# Altium schematic symbol library WE-TPB HV.SchLib: 18 symbols
Pins are listed as number, name and electrical type; pins without a type are passive.

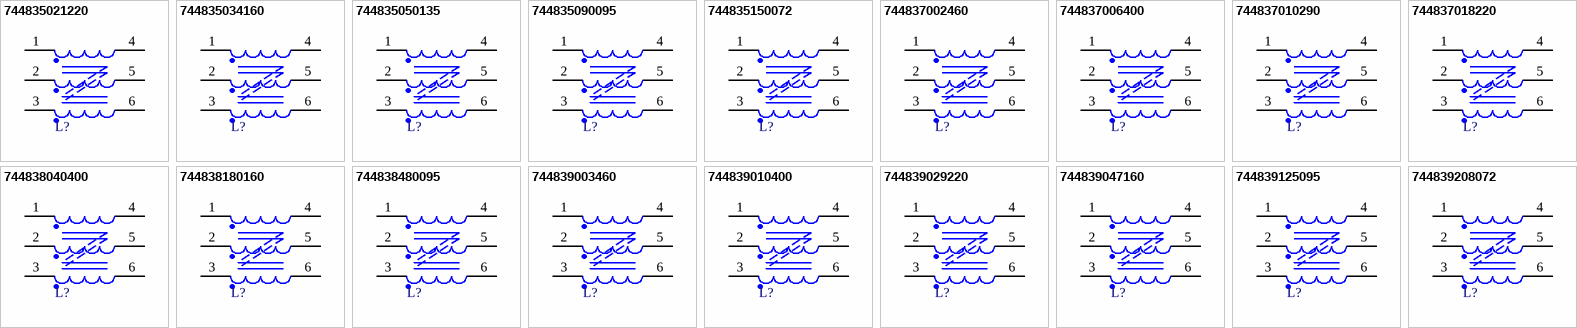
[diagram p0: symbols 744835021220 to 744839208072]

## 744835021220
designator L?, comment 2.1mH  (value not drawn)
WE-TPB HV THT Three-Phase Common Mode Power Line Choke, Type 4XL, 2.1mH, 22A, 9mΩ; Manufacturer Part Number: 744835021220; Manufacturer: Wurth Elektronik; Insulation Test Voltage (AC): 3000V; Material: MnZn; Rated Voltage (AC): 760V; ComponentLink1Description: Manufacturer Link; ComponentLink1URL: https://www.we-online.com/redexpert/article/744835021220?ad; ComponentLink2Description: Datasheet; ComponentLink2URL: https://www.we-online.com/redexpert/spec/744835021220?ad; Category: Common Mode Chokes; Match Code: WE-TPB HV; Mount: Through Hole; Operating Temperature Max: 125°C; Operating Temperature Min: -40°C; Packaging: Tray; Case/Size Code: Type 4XL; Height: 39mm; Diameter: 70mm; DC Resistance Max: 9mΩ; Inductance: 2.1mH; Rated Current: 22A
footprint WE-TPB HV_Type 4XL_744835021220
pins: 1, 2, 3, 4, 5, 6

## 744835034160
designator L?, comment 3.4mH  (value not drawn)
WE-TPB HV THT Three-Phase Common Mode Power Line Choke, Type 4XL, 3.4mH, 16A, 14mΩ; Manufacturer Part Number: 744835034160; Manufacturer: Wurth Elektronik; Insulation Test Voltage (AC): 3000V; Material: MnZn; Rated Voltage (AC): 760V; ComponentLink1Description: Manufacturer Link; ComponentLink1URL: https://www.we-online.com/redexpert/article/744835034160?ad; ComponentLink2Description: Datasheet; ComponentLink2URL: https://www.we-online.com/redexpert/spec/744835034160?ad; Category: Common Mode Chokes; Match Code: WE-TPB HV; Mount: Through Hole; Operating Temperature Max: 125°C; Operating Temperature Min: -40°C; Packaging: Tray; Case/Size Code: Type 4XL; Height: 39mm; Diameter: 70mm; DC Resistance Max: 14mΩ; Inductance: 3.4mH; Rated Current: 16A
footprint WE-TPB HV_Type 4XL_744835034160
pins: 1, 2, 3, 4, 5, 6

## 744835050135
designator L?, comment 5mH  (value not drawn)
WE-TPB HV THT Three-Phase Common Mode Power Line Choke, Type 4XL, 5mH, 13.5A, 23mΩ; Manufacturer Part Number: 744835050135; Manufacturer: Wurth Elektronik; Insulation Test Voltage (AC): 3000V; Material: MnZn; Rated Voltage (AC): 760V; ComponentLink1Description: Manufacturer Link; ComponentLink1URL: https://www.we-online.com/redexpert/article/744835050135?ad; ComponentLink2Description: Datasheet; ComponentLink2URL: https://www.we-online.com/redexpert/spec/744835050135?ad; Category: Common Mode Chokes; Match Code: WE-TPB HV; Mount: Through Hole; Operating Temperature Max: 125°C; Operating Temperature Min: -40°C; Packaging: Tray; Case/Size Code: Type 4XL; Height: 39mm; Diameter: 70mm; DC Resistance Max: 23mΩ; Inductance: 5mH; Rated Current: 13.5A
footprint WE-TPB HV_Type 4XL_744835050135
pins: 1, 2, 3, 4, 5, 6

## 744835090095
designator L?, comment 9mH  (value not drawn)
WE-TPB HV THT Three-Phase Common Mode Power Line Choke, Type 4XL, 9mH, 9.5A, 47mΩ; Manufacturer Part Number: 744835090095; Manufacturer: Wurth Elektronik; Insulation Test Voltage (AC): 3000V; Material: MnZn; Rated Voltage (AC): 760V; ComponentLink1Description: Manufacturer Link; ComponentLink1URL: https://www.we-online.com/redexpert/article/744835090095?ad; ComponentLink2Description: Datasheet; ComponentLink2URL: https://www.we-online.com/redexpert/spec/744835090095?ad; Category: Common Mode Chokes; Match Code: WE-TPB HV; Mount: Through Hole; Operating Temperature Max: 125°C; Operating Temperature Min: -40°C; Packaging: Tray; Case/Size Code: Type 4XL; Height: 39mm; Diameter: 70mm; DC Resistance Max: 47mΩ; Inductance: 9mH; Rated Current: 9.5A
footprint WE-TPB HV_Type 4XL_744835090095
pins: 1, 2, 3, 4, 5, 6

## 744835150072
designator L?, comment 15mH  (value not drawn)
WE-TPB HV THT Three-Phase Common Mode Power Line Choke, Type 4XL, 15mH, 7.2A, 85mΩ; Manufacturer Part Number: 744835150072; Manufacturer: Wurth Elektronik; Insulation Test Voltage (AC): 3000V; Material: MnZn; Rated Voltage (AC): 760V; ComponentLink1Description: Manufacturer Link; ComponentLink1URL: https://www.we-online.com/redexpert/article/744835150072?ad; ComponentLink2Description: Datasheet; ComponentLink2URL: https://www.we-online.com/redexpert/spec/744835150072?ad; Category: Common Mode Chokes; Match Code: WE-TPB HV; Mount: Through Hole; Operating Temperature Max: 125°C; Operating Temperature Min: -40°C; Packaging: Tray; Case/Size Code: Type 4XL; Height: 39mm; Diameter: 70mm; DC Resistance Max: 85mΩ; Inductance: 15mH; Rated Current: 7.2A
footprint WE-TPB HV_Type 4XL_744835150072
pins: 1, 2, 3, 4, 5, 6

## 744837002460
designator L?, comment 0.2mH  (value not drawn)
WE-TPB HV THT Three-Phase Common Mode Power Line Choke, Type 4XL, 0.2mH, 46A, 1.6mΩ; Manufacturer Part Number: 744837002460; Manufacturer: Wurth Elektronik; Insulation Test Voltage (AC): 3000V; Material: MnZn; Rated Voltage (AC): 760V; ComponentLink1Description: Manufacturer Link; ComponentLink1URL: https://www.we-online.com/redexpert/article/744837002460?ad; ComponentLink2Description: Datasheet; ComponentLink2URL: https://www.we-online.com/redexpert/spec/744837002460?ad; Category: Common Mode Chokes; Match Code: WE-TPB HV; Mount: Through Hole; Operating Temperature Max: 125°C; Operating Temperature Min: -40°C; Packaging: Tray; Case/Size Code: Type 4XL; Height: 39mm; Diameter: 70mm; DC Resistance Max: 1.6mΩ; Inductance: 0.2mH; Rated Current: 46A
footprint WE-TPB HV_Type 4XL_744837002460
pins: 1, 2, 3, 4, 5, 6

## 744837006400
designator L?, comment 0.6mH  (value not drawn)
WE-TPB HV THT Three-Phase Common Mode Power Line Choke, Type 4XL, 0.6mH, 40A, 3.2mΩ; Manufacturer Part Number: 744837006400; Manufacturer: Wurth Elektronik; Insulation Test Voltage (AC): 3000V; Material: MnZn; Rated Voltage (AC): 760V; ComponentLink1Description: Manufacturer Link; ComponentLink1URL: https://www.we-online.com/redexpert/article/744837006400?ad; ComponentLink2Description: Datasheet; ComponentLink2URL: https://www.we-online.com/redexpert/spec/744837006400?ad; Category: Common Mode Chokes; Match Code: WE-TPB HV; Mount: Through Hole; Operating Temperature Max: 125°C; Operating Temperature Min: -40°C; Packaging: Tray; Case/Size Code: Type 4XL; Height: 39mm; Diameter: 70mm; DC Resistance Max: 3.2mΩ; Inductance: 0.6mH; Rated Current: 40A
footprint WE-TPB HV_Type 4XL_744837006400
pins: 1, 2, 3, 4, 5, 6

## 744837010290
designator L?, comment 1mH  (value not drawn)
WE-TPB HV THT Three-Phase Common Mode Power Line Choke, Type 4XL, 1mH, 29A, 5mΩ; Manufacturer Part Number: 744837010290; Manufacturer: Wurth Elektronik; Insulation Test Voltage (AC): 3000V; Material: MnZn; Rated Voltage (AC): 760V; ComponentLink1Description: Manufacturer Link; ComponentLink1URL: https://www.we-online.com/redexpert/article/744837010290?ad; ComponentLink2Description: Datasheet; ComponentLink2URL: https://www.we-online.com/redexpert/spec/744837010290?ad; Category: Common Mode Chokes; Match Code: WE-TPB HV; Mount: Through Hole; Operating Temperature Max: 125°C; Operating Temperature Min: -40°C; Packaging: Tray; Case/Size Code: Type 4XL; Height: 39mm; Diameter: 70mm; DC Resistance Max: 5mΩ; Inductance: 1mH; Rated Current: 29A
footprint WE-TPB HV_Type 4XL_744837010290
pins: 1, 2, 3, 4, 5, 6

## 744837018220
designator L?, comment 1.8mH  (value not drawn)
WE-TPB HV THT Three-Phase Common Mode Power Line Choke, Type 4XL, 1.8mH, 22A, 9mΩ; Manufacturer Part Number: 744837018220; Manufacturer: Wurth Elektronik; Insulation Test Voltage (AC): 3000V; Material: MnZn; Rated Voltage (AC): 760V; ComponentLink1Description: Manufacturer Link; ComponentLink1URL: https://www.we-online.com/redexpert/article/744837018220?ad; ComponentLink2Description: Datasheet; ComponentLink2URL: https://www.we-online.com/redexpert/spec/744837018220?ad; Category: Common Mode Chokes; Match Code: WE-TPB HV; Mount: Through Hole; Operating Temperature Max: 125°C; Operating Temperature Min: -40°C; Packaging: Tray; Case/Size Code: Type 4XL; Height: 39mm; Diameter: 70mm; DC Resistance Max: 9mΩ; Inductance: 1.8mH; Rated Current: 22A
footprint WE-TPB HV_Type 4XL_744837018220
pins: 1, 2, 3, 4, 5, 6

## 744838040400
designator L?, comment 4mH  (value not drawn)
WE-TPB HV THT Three-Phase Common Mode Power Line Choke, Type 4XL, 4mH, 40A, 3.2mΩ; Manufacturer Part Number: 744838040400; Manufacturer: Wurth Elektronik; Insulation Test Voltage (AC): 3000V; Material: MnZn; Rated Voltage (AC): 760V; ComponentLink1Description: Manufacturer Link; ComponentLink1URL: https://www.we-online.com/redexpert/article/744838040400?ad; ComponentLink2Description: Datasheet; ComponentLink2URL: https://www.we-online.com/redexpert/spec/744838040400?ad; Category: Common Mode Chokes; Match Code: WE-TPB HV; Mount: Through Hole; Operating Temperature Max: 125°C; Operating Temperature Min: -40°C; Packaging: Tray; Case/Size Code: Type 4XL; Height: 39mm; Diameter: 70mm; DC Resistance Max: 3.2mΩ; Inductance: 4mH; Rated Current: 40A
footprint WE-TPB HV_Type 4XL_744838040400
pins: 1, 2, 3, 4, 5, 6

## 744838180160
designator L?, comment 18mH  (value not drawn)
WE-TPB HV THT Three-Phase Common Mode Power Line Choke, Type 4XL, 18mH, 16A, 14mΩ; Manufacturer Part Number: 744838180160; Manufacturer: Wurth Elektronik; Insulation Test Voltage (AC): 3000V; Material: MnZn; Rated Voltage (AC): 760V; ComponentLink1Description: Manufacturer Link; ComponentLink1URL: https://www.we-online.com/redexpert/article/744838180160?ad; ComponentLink2Description: Datasheet; ComponentLink2URL: https://www.we-online.com/redexpert/spec/744838180160?ad; Category: Common Mode Chokes; Match Code: WE-TPB HV; Mount: Through Hole; Operating Temperature Max: 125°C; Operating Temperature Min: -40°C; Packaging: Tray; Case/Size Code: Type 4XL; Height: 39mm; Diameter: 70mm; DC Resistance Max: 14mΩ; Inductance: 18mH; Rated Current: 16A
footprint WE-TPB HV_Type 4XL_744838180160
pins: 1, 2, 3, 4, 5, 6

## 744838480095
designator L?, comment 48mH  (value not drawn)
WE-TPB HV THT Three-Phase Common Mode Power Line Choke, Type 4XL, 48mH, 9.5A, 47mΩ; Manufacturer Part Number: 744838480095; Manufacturer: Wurth Elektronik; Insulation Test Voltage (AC): 3000V; Material: MnZn; Rated Voltage (AC): 760V; ComponentLink1Description: Manufacturer Link; ComponentLink1URL: https://www.we-online.com/redexpert/article/744838480095?ad; ComponentLink2Description: Datasheet; ComponentLink2URL: https://www.we-online.com/redexpert/spec/744838480095?ad; Category: Common Mode Chokes; Match Code: WE-TPB HV; Mount: Through Hole; Operating Temperature Max: 125°C; Operating Temperature Min: -40°C; Packaging: Tray; Case/Size Code: Type 4XL; Height: 39mm; Diameter: 70mm; DC Resistance Max: 47mΩ; Inductance: 48mH; Rated Current: 9.5A
footprint WE-TPB HV_Type 4XL_744838480095
pins: 1, 2, 3, 4, 5, 6

## 744839003460
designator L?, comment 3mH  (value not drawn)
WE-TPB HV THT Three-Phase Common Mode Power Line Choke, Type 4XL, 3mH, 46A, 1.6mΩ; Manufacturer Part Number: 744839003460; Manufacturer: Wurth Elektronik; Insulation Test Voltage (AC): 3000V; Material: MnZn; Rated Voltage (AC): 760V; ComponentLink1Description: Manufacturer Link; ComponentLink1URL: https://www.we-online.com/redexpert/article/744839003460?ad; ComponentLink2Description: Datasheet; ComponentLink2URL: https://www.we-online.com/redexpert/spec/744839003460?ad; Category: Common Mode Chokes; Match Code: WE-TPB HV; Mount: Through Hole; Operating Temperature Max: 125°C; Operating Temperature Min: -40°C; Packaging: Tray; Case/Size Code: Type 4XL; Height: 39mm; Diameter: 70mm; DC Resistance Max: 1.6mΩ; Inductance: 3mH; Rated Current: 46A
footprint WE-TPB HV_Type 4XL_744839003460
pins: 1, 2, 3, 4, 5, 6

## 744839010400
designator L?, comment 10.5mH  (value not drawn)
WE-TPB HV THT Three-Phase Common Mode Power Line Choke, Type 4XL, 10.5mH, 40A, 3.2mΩ; Manufacturer Part Number: 744839010400; Manufacturer: Wurth Elektronik; Insulation Test Voltage (AC): 3000V; Material: MnZn; Rated Voltage (AC): 760V; ComponentLink1Description: Manufacturer Link; ComponentLink1URL: https://www.we-online.com/redexpert/article/744839010400?ad; ComponentLink2Description: Datasheet; ComponentLink2URL: https://www.we-online.com/redexpert/spec/744839010400?ad; Category: Common Mode Chokes; Match Code: WE-TPB HV; Mount: Through Hole; Operating Temperature Max: 125°C; Operating Temperature Min: -40°C; Packaging: Tray; Case/Size Code: Type 4XL; Height: 39mm; Diameter: 70mm; DC Resistance Max: 3.2mΩ; Inductance: 10.5mH; Rated Current: 40A
footprint WE-TPB HV_Type 4XL_744839010400
pins: 1, 2, 3, 4, 5, 6

## 744839029220
designator L?, comment 29mH  (value not drawn)
WE-TPB HV THT Three-Phase Common Mode Power Line Choke, Type 4XL, 29mH, 22A, 9mΩ; Manufacturer Part Number: 744839029220; Manufacturer: Wurth Elektronik; Insulation Test Voltage (AC): 3000V; Material: MnZn; Rated Voltage (AC): 760V; ComponentLink1Description: Manufacturer Link; ComponentLink1URL: https://www.we-online.com/redexpert/article/744839029220?ad; ComponentLink2Description: Datasheet; ComponentLink2URL: https://www.we-online.com/redexpert/spec/744839029220?ad; Category: Common Mode Chokes; Match Code: WE-TPB HV; Mount: Through Hole; Operating Temperature Max: 125°C; Operating Temperature Min: -40°C; Packaging: Tray; Case/Size Code: Type 4XL; Height: 39mm; Diameter: 70mm; DC Resistance Max: 9mΩ; Inductance: 29mH; Rated Current: 22A
footprint WE-TPB HV_Type 4XL_744839029220
pins: 1, 2, 3, 4, 5, 6

## 744839047160
designator L?, comment 47mH  (value not drawn)
WE-TPB HV THT Three-Phase Common Mode Power Line Choke, Type 4XL, 47mH, 16A, 14mΩ; Manufacturer Part Number: 744839047160; Manufacturer: Wurth Elektronik; Insulation Test Voltage (AC): 3000V; Material: MnZn; Rated Voltage (AC): 760V; ComponentLink1Description: Manufacturer Link; ComponentLink1URL: https://www.we-online.com/redexpert/article/744839047160?ad; ComponentLink2Description: Datasheet; ComponentLink2URL: https://www.we-online.com/redexpert/spec/744839047160?ad; Category: Common Mode Chokes; Match Code: WE-TPB HV; Mount: Through Hole; Operating Temperature Max: 125°C; Operating Temperature Min: -40°C; Packaging: Tray; Case/Size Code: Type 4XL; Height: 39mm; Diameter: 70mm; DC Resistance Max: 14mΩ; Inductance: 47mH; Rated Current: 16A
footprint WE-TPB HV_Type 4XL_744839047160
pins: 1, 2, 3, 4, 5, 6

## 744839125095
designator L?, comment 125mH  (value not drawn)
WE-TPB HV THT Three-Phase Common Mode Power Line Choke, Type 4XL, 125mH, 9.5A, 47mΩ; Manufacturer Part Number: 744839125095; Manufacturer: Wurth Elektronik; Insulation Test Voltage (AC): 3000V; Material: MnZn; Rated Voltage (AC): 760V; ComponentLink1Description: Manufacturer Link; ComponentLink1URL: https://www.we-online.com/redexpert/article/744839125095?ad; ComponentLink2Description: Datasheet; ComponentLink2URL: https://www.we-online.com/redexpert/spec/744839125095?ad; Category: Common Mode Chokes; Match Code: WE-TPB HV; Mount: Through Hole; Operating Temperature Max: 125°C; Operating Temperature Min: -40°C; Packaging: Tray; Case/Size Code: Type 4XL; Height: 39mm; Diameter: 70mm; DC Resistance Max: 47mΩ; Inductance: 125mH; Rated Current: 9.5A
footprint WE-TPB HV_Type 4XL_744839125095
pins: 1, 2, 3, 4, 5, 6

## 744839208072
designator L?, comment 208mH  (value not drawn)
WE-TPB HV THT Three-Phase Common Mode Power Line Choke, Type 4XL, 208mH, 7.2A, 85mΩ; Manufacturer Part Number: 744839208072; Manufacturer: Wurth Elektronik; Insulation Test Voltage (AC): 3000V; Material: MnZn; Rated Voltage (AC): 760V; ComponentLink1Description: Manufacturer Link; ComponentLink1URL: https://www.we-online.com/redexpert/article/744839208072?ad; ComponentLink2Description: Datasheet; ComponentLink2URL: https://www.we-online.com/redexpert/spec/744839208072?ad; Category: Common Mode Chokes; Match Code: WE-TPB HV; Mount: Through Hole; Operating Temperature Max: 125°C; Operating Temperature Min: -40°C; Packaging: Tray; Case/Size Code: Type 4XL; Height: 39mm; Diameter: 70mm; DC Resistance Max: 85mΩ; Inductance: 208mH; Rated Current: 7.2A
footprint WE-TPB HV_Type 4XL_744839208072
pins: 1, 2, 3, 4, 5, 6